# Altium footprint library Docking Station.PcbLib: 8 footprints
Each footprint in its own frame and in the unit in brackets; x right, y up, seen from the top. Pads: shape width x height; smd on the part's side, far side on the other; paste and mask are expansions set on the pad; w line width, h text height; cw(c..) or ccw(c..) is an arc to the next point about the centre after c.
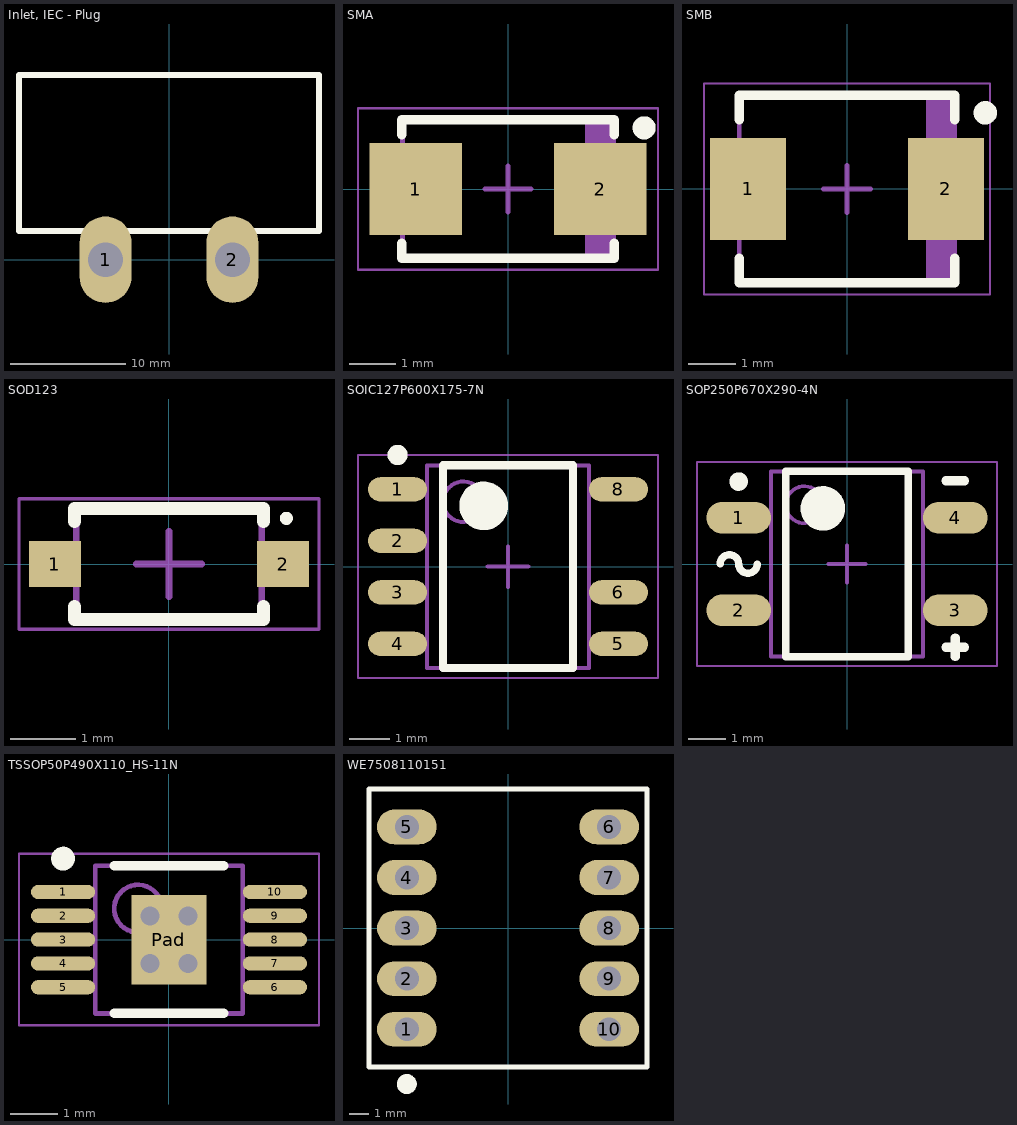
[diagram p0: the footprints below, top view; thin cyan lines are the x and y axes]

## Inlet, IEC - Plug [mm]
height 16
pads (2):
  oval 4.5x7.5 hole 3: 1(-5.5,0) 2(5.5,0)
Top Overlay:
  lines w0.508: -13,2.5 -13,16 13,16 13,2.5 -13,2.5
3D body: height 10, standoff 5, extent 3,-2.5 8,2.5
3D body: height 10, standoff 5, extent -8,-2.5 -3,2.5
3D body: height 5, standoff -5.3, extent -6,-1.25 -5,1.25
3D body: height 5, standoff -5.3, extent 5,-1.25 6,1.25
3D body: height 16, standoff -1.6, extent -14,16 14,18.5
3D body: height 14, standoff 0.4, extent -13,2.5 13,16

## SMA [mm] "Molded Diode, 2-Leads, Body 4,31x2,60mm, IPC Medium Density"
height 2.2
pads (2):
  rect 2x2 smd: 1(-2,0) 2(2,0)
Top Overlay:
  circle w0.25: c2.95,1.325 r0.125
  lines w0.2: -2.3,-1.175 -2.3,-1.5 2.3,-1.5 2.3,-1.175 ; -2.3,1.175 -2.3,1.5 2.3,1.5 2.3,1.175
Mechanical 13:
  rectangle: 1.67,-1.46 2.285,1.46
  lines w0.1: -2.285,-1.46 2.285,-1.46 2.285,1.46 -2.285,1.46 -2.285,-1.46
Mechanical 15:
  lines w0.05: -3.25,-1.75 3.25,-1.75 3.25,1.75 -3.25,1.75 -3.25,-1.75
  lines w0.1: -0.5,0 0.5,0 ; 0,-0.5 0,0.5
3D body: height 2.2, standoff 0, extent -2.285,-1.46 2.285,1.46

## SMB [mm] "SMB"
height 2.5
pads (2):
  rect 1.62x2.18 smd: 1(-2.11,0) 2(2.11,0)
Top Overlay:
  circle w0.25: c2.95,1.625 r0.125
  lines w0.2: -2.3,-1.475 -2.3,-2 2.3,-2 2.3,-1.475 ; -2.3,1.475 -2.3,2 2.3,2 2.3,1.475
Mechanical 13:
  rectangle: 1.681,-1.975 2.3,1.975
  lines w0.1: -2.3,-1.975 -2.3,1.975 2.3,1.975 2.3,-1.975 -2.3,-1.975
Mechanical 15:
  lines w0.05: -3.05,-2.25 -3.05,2.25 3.05,2.25 3.05,-2.25 -3.05,-2.25
  lines w0.1: -0.5,0 0.5,0 ; 0,-0.5 0,0.5
3D body: height 2.5, standoff 0, extent -2.3,-1.975 2.3,1.975

## SOD123 [mm] "SODFL, 2-Leads, Body 1,55x3,70mm, IPC Medium Density"
height 1.45
pads (2):
  rect 0.8x0.7 smd: 1(-1.75,0) 2(1.75,0)
Top Overlay:
  circle w0.1: c1.8,0.7 r0.05
  lines w0.2: -1.45,-0.65 -1.45,-0.85 1.45,-0.85 1.45,-0.65 ; -1.45,0.65 -1.45,0.85 1.45,0.85 1.45,0.65
Mechanical 13:
  lines w0.1: -1.425,-0.85 -1.425,0.85 1.425,0.85 1.425,-0.85 -1.425,-0.85
Mechanical 15:
  lines w0.05: -2.3,-1 -2.3,1 2.3,1 2.3,-1 -2.3,-1
  lines w0.1: -0.5,0 0.5,0 ; 0,-0.5 0,0.5
3D body: height 1.45, standoff 0, extent -1.425,-0.85 1.425,0.85

## SOIC127P600X175-7N [mm] "SOIC, 7-Leads, Body 4,90x3,90mm, Pitch 1,27mm, IPC Medium Density"
height 1.75
pads (7):
  oval 1.45x0.6 smd: 1(-2.725,1.905) 2(-2.725,0.635) 3(-2.725,-0.635) 4(-2.725,-1.905) 5(2.725,-1.905) 6(2.725,-0.635) 8(2.725,1.905)
Top Overlay:
  circle w0.6: c-0.6,1.5 r0.3
  circle w0.25: c-2.725,2.755 r0.125
  lines w0.2: -1.6,-2.5 1.6,-2.5 1.6,2.5 -1.6,2.5 -1.6,-2.5
Mechanical 13:
  circle w0.1: c-1.1,1.6 r0.5
  lines w0.1: -2,-2.5 2,-2.5 2,2.5 -2,2.5 -2,-2.5
Mechanical 15:
  lines w0.05: -3.7,-2.75 3.7,-2.75 3.7,2.75 -3.7,2.75 -3.7,-2.75
  lines w0.1: -0.5,0 0.5,0 ; 0,-0.5 0,0.5
3D body: height 1.75, standoff 0.1, extent -2,-2.5 2,2.5

## SOP250P670X290-4N [mm] "SOP, 4-Leads, Body 4,75x3,87mm, Pitch 2,50mm, IPC Medium Density"
height 2.9
pads (4):
  oval 1.75x0.85 smd: 1(-2.925,1.25) 2(-2.925,-1.25) 3(2.925,-1.25) 4(2.925,1.25)
Top Overlay:
  circle w0.25: c-2.925,2.225 r0.125
  circle w0.6: c-0.65,1.5 r0.3
  lines w0.2: -3.425,0 cw(c-3.175,0) -2.925,0 ccw(c-2.675,0) -2.425,0 ; -1.65,-2.5 -1.65,2.5 1.65,2.5 1.65,-2.5 -1.65,-2.5
  lines w0.25: 2.675,-2.25 3.175,-2.25 ; 2.675,2.25 3.175,2.25 ; 2.925,-2.5 2.925,-2
Mechanical 13:
  circle w0.1: c-1.15,1.6 r0.5
  lines w0.1: -2.05,-2.5 -2.05,2.5 2.05,2.5 2.05,-2.5 -2.05,-2.5
Mechanical 15:
  lines w0.05: -4.05,-2.75 -4.05,2.75 4.05,2.75 4.05,-2.75 -4.05,-2.75
  lines w0.1: -0.5,0 0.5,0 ; 0,-0.5 0,0.5
3D body: height 2.9, standoff 0.1, extent -2.05,-2.5 2.05,2.5

## TSSOP50P490X110_HS-11N [mm] "TSSOP, 10-Leads, Body 3,00x3,00mm, Pitch 0,50mm, Thermal Pad 1,88x1,57mm, IPC Medium Density"
height 1.1
pads (11):
  oval 1.35x0.3 smd: 1(-2.225,1) 2(-2.225,0.5) 3(-2.225,0) 4(-2.225,-0.5) 5(-2.225,-1) 6(2.225,-1) 7(2.225,-0.5) 8(2.225,0) 9(2.225,0.5) 10(2.225,1)
  rect 1.57x1.88 smd: Pad(0,0)
via 0.4,0.5 diameter 0.6 hole 0.4
via -0.4,0.5 diameter 0.6 hole 0.4
via -0.4,-0.5 diameter 0.6 hole 0.4
via 0.4,-0.5 diameter 0.6 hole 0.4
Top Overlay:
  circle w0.25: c-2.225,1.7 r0.125
  lines w0.2: -1.15,-1.55 1.15,-1.55 ; -1.15,1.55 1.15,1.55
Mechanical 13:
  circle w0.1: c-0.65,0.65 r0.5
  lines w0.1: -1.55,-1.55 -1.55,1.55 1.55,1.55 1.55,-1.55 -1.55,-1.55
Mechanical 15:
  lines w0.05: -3.15,-1.8 -3.15,1.8 3.15,1.8 3.15,-1.8 -3.15,-1.8
  lines w0.1: -0.5,0 0.5,0 ; 0,-0.5 0,0.5
3D body: height 1.1, standoff 0.05, extent -1.55,-1.55 1.55,1.55

## WE7508110151 [mm]
height 12.7
pads (10):
  oval 3x1.75 hole 1.2: 1(-5.08,-5.08) 2(-5.08,-2.54) 3(-5.08,0) 4(-5.08,2.54) 5(-5.08,5.08) 6(5.08,5.08) 7(5.08,2.54) 8(5.08,0) 9(5.08,-2.54) 10(5.08,-5.08)
Top Overlay:
  circle w0.5: c-5.08,-7.83 r0.25
  lines w0.25: -6.985,-6.985 -6.985,6.985 6.985,6.985 6.985,-6.985 -6.985,-6.985
3D body: height 12.7, standoff 12.7, extent -5.189,-5.193 -3.695,-3.696
3D body: height 5, standoff 4, extent -6.35,-6.35 6.35,6.35
3D body: height 1, standoff -2.5, extent 4.83,-5.33 5.33,-4.83
3D body: height 1, standoff -2.5, extent 4.83,-2.79 5.33,-2.29
3D body: height 1, standoff -2.5, extent 4.83,-0.25 5.33,0.25
3D body: height 1, standoff -2.5, extent 4.83,2.29 5.33,2.79
3D body: height 1, standoff -2.5, extent 4.83,4.83 5.33,5.33
3D body: height 1, standoff -2.5, extent -5.33,4.83 -4.83,5.33
3D body: height 1, standoff -2.5, extent -5.33,2.29 -4.83,2.79
3D body: height 1, standoff -2.5, extent -5.33,-0.25 -4.83,0.25
3D body: height 1, standoff -2.5, extent -5.33,-2.79 -4.83,-2.29
3D body: height 1, standoff -2.5, extent -5.33,-5.33 -4.83,-4.83
3D body: height 1, standoff 0, extent -6.985,-6.985 -3.175,-6.35
3D body: height 1, standoff 0, extent -6.985,6.35 -3.175,6.985
3D body: height 1, standoff 0, extent 3.175,-6.985 6.985,-6.35
3D body: height 1, standoff 0, extent 3.175,6.35 6.985,6.985
3D body: height 4, standoff 1, extent -6.985,-6.985 -3.175,6.985
3D body: height 4, standoff 1, extent 3.175,-6.985 6.985,6.985
3D body: height 10, standoff 5, extent -6.35,-6.35 6.35,6.35
3D body: height 12.7, standoff 10, extent -6.35,-6.35 6.35,6.35